# Altium footprint library resistors.PcbLib: 50 footprints (part 3 of 4)
Each footprint in its own frame and in the unit in brackets; x right, y up, seen from the top. Pads: shape width x height; smd on the part's side, far side on the other; paste and mask are expansions set on the pad; w line width, h text height; cw(c..) or ccw(c..) is an arc to the next point about the centre after c.
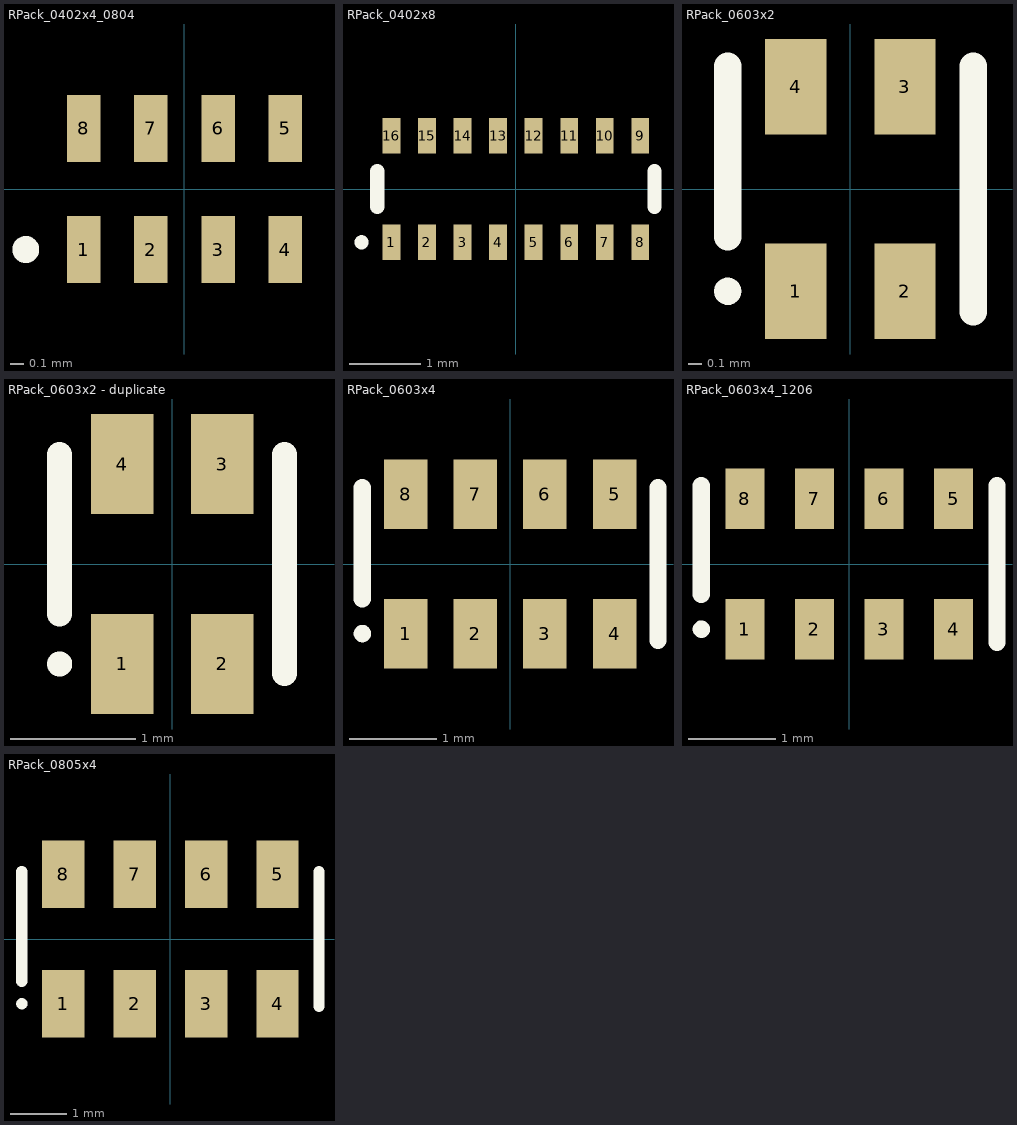
[diagram p2: the footprints below, top view; thin cyan lines are the x and y axes]

## RPack_0402x4_0804 [mm] "Chip Resistor Array, (0402x4); SM; 8 Leads; Body 2.10 x 1.10 mm (LxW max)"
height 0.45
pads (8):
  rect 0.25x0.5 smd: 1(-0.75,-0.45) 2(-0.25,-0.45) 3(0.25,-0.45) 4(0.75,-0.45) 5(0.75,0.45) 6(0.25,0.45) 7(-0.25,0.45) 8(-0.75,0.45)
Top Overlay:
  circle w0.1: c-1.18,-0.45 r0.05
3D body "User Library-YC124.step": height 0.36, standoff 0, extent -1,-0.492 1,0.508

## RPack_0402x8 [mm] "Chip Resistor Array, (0402x8); SM; 16 Leads; Body 3.90 x 1.70 mm (LxW max)"
height 0.55
pads (16):
  rect 0.25x0.5 smd: 1(-1.75,-0.75) 2(-1.25,-0.75) 3(-0.75,-0.75) 4(-0.25,-0.75) 5(0.25,-0.75) 6(0.75,-0.75) 7(1.25,-0.75) 8(1.75,-0.75) 9(1.75,0.75) 10(1.25,0.75) 11(0.75,0.75) 12(0.25,0.75) 13(-0.25,0.75) 14(-0.75,0.75) 15(-1.25,0.75) 16(-1.75,0.75)
Top Overlay:
  circle w0.1: c-2.17,-0.75 r0.05
  lines w0.2: -1.95,-0.25 -1.95,0.25 ; 1.95,-0.25 1.95,0.25
3D body "User Library-YC248-1.step": height 0.45, standoff 0, extent -2,-0.825 2,0.775

## RPack_0603x2 [mm] "Chip Resistor Array, (0603x2); SM; 4 Leads; Body 1.80 x 1.80 mm (LxW max)"
height 0.7
pads (4):
  rect 0.45x0.7 smd: 1(-0.4,-0.75) 2(0.4,-0.75) 3(0.4,0.75) 4(-0.4,0.75)
Top Overlay:
  circle w0.1: c-0.9,-0.75 r0.05
  lines w0.2: -0.9,-0.35 -0.9,0.9 ; 0.9,-0.9 0.9,0.9

## RPack_0603x2 - duplicate [mm] "Chip Resistor Array, (0603x2); SM; 4 Leads; Body 1.80 x 1.75 mm (LxW max)"
height 0.6
pads (4):
  rect 0.5x0.8 smd: 1(-0.4,-0.8) 2(0.4,-0.8) 3(0.4,0.8) 4(-0.4,0.8)
Top Overlay:
  circle w0.1: c-0.9,-0.8 r0.05
  lines w0.2: -0.9,-0.4 -0.9,0.875 ; 0.9,-0.875 0.9,0.875

## RPack_0603x4 [mm] "Chip Resistor Array, (0603x4); SM; 8 Leads; Body 3.40 x 1.75 mm (LxW max)"
height 0.6
pads (8):
  rect 0.5x0.8 smd: 1(-1.2,-0.8) 2(-0.4,-0.8) 3(0.4,-0.8) 4(1.2,-0.8) 5(1.2,0.8) 6(0.4,0.8) 7(-0.4,0.8) 8(-1.2,0.8)
Top Overlay:
  circle w0.1: c-1.7,-0.8 r0.05
  lines w0.2: -1.7,-0.4 -1.7,0.875 ; 1.7,-0.875 1.7,0.875

## RPack_0603x4_1206 [mm] "Chip Resistor Array, (0603x4); SM; 8 Leads; Body 3.40 x 1.80 mm (LxW max), e.g. Bourns CAT16-J4, Panasonic EXBV8V"
height 0.7
pads (8):
  rect 0.45x0.7 smd: 1(-1.2,-0.75) 2(-0.4,-0.75) 3(0.4,-0.75) 4(1.2,-0.75) 5(1.2,0.75) 6(0.4,0.75) 7(-0.4,0.75) 8(-1.2,0.75)
Top Overlay:
  circle w0.1: c-1.7,-0.75 r0.05
  lines w0.2: -1.7,-0.35 -1.7,0.9 ; 1.7,-0.9 1.7,0.9
3D body "User Library-Array-1206-4Way-Var1.STEP": height 0.5, standoff 0, extent -1.6,-0.8 1.6,0.8

## RPack_0805x4 [mm] "Chip Resistor Array, (0805x4); SM; 8 Leads; Body 5.28 x 2.40 mm (LxW max)"
height 0.9
pads (8):
  rect 0.75x1.2 smd: 1(-1.905,-1.15) 2(-0.635,-1.15) 3(0.635,-1.15) 4(1.905,-1.15) 5(1.905,1.15) 6(0.635,1.15) 7(-0.635,1.15) 8(-1.905,1.15)
Top Overlay:
  circle w0.1: c-2.64,-1.15 r0.05
  lines w0.2: -2.64,-0.75 -2.64,1.2 ; 2.64,-1.2 2.64,1.2

## RPack_SIP4 [mm]
3D body "User Library-4600X Series (Bourns).step": height 0.25, standoff -2.24, extent -3.861,-3.665 6.249,4.718

## RPack_SIP5 [mm]
3D body "User Library-4600X Series (Bourns) (3).step": height 0.25, standoff -2.24, extent -5.436,-5.418 7.214,2.966

## RPack_SIP6 [mm]
3D body "User Library-4600X Series (Bourns) (4).step": height 0.25, standoff -2.24, extent -7.315,-4.021 7.875,4.362

## RPack_SIP7 [mm]
3D body "User Library-4600X Series (Bourns) (5).step": height 0.25, standoff -2.24, extent -8.941,-3.691 8.789,4.693

## RPACK_SIP8 [mm]
3D body "User Library-4600X Series (Bourns) (1).step": height 0.25, standoff -2.24, extent -10.465,-4.097 9.805,4.286

## RPack_SIP9 [mm]
3D body "User Library-4600X Series (Bourns) (6).step": height 0.25, standoff -2.24, extent -10.236,-2.548 12.574,5.836

## RPack_SIP10 [mm]
3D body "User Library-4600X Series (Bourns) (7).step": height 0.25, standoff -2.24, extent -14.63,-2.725 10.72,5.658

## RPack_SIP11 [mm]
3D body "User Library-4600X Series (Bourns) (8).step": height 0.25, standoff -2.24, extent -15.214,-3.132 12.676,5.251

## RPack_SIP12 [mm]
3D body "User Library-4600X Series (Bourns) (9).step": height 0.25, standoff -2.24, extent -12.573,-2.116 17.857,6.268